# Altium footprint library C1Q-500.PcbLib: 1 footprints
Each footprint in its own frame and in the unit in brackets; x right, y up, seen from the top. Pads: shape width x height; smd on the part's side, far side on the other; paste and mask are expansions set on the pad; w line width, h text height; cw(c..) or ccw(c..) is an arc to the next point about the centre after c.
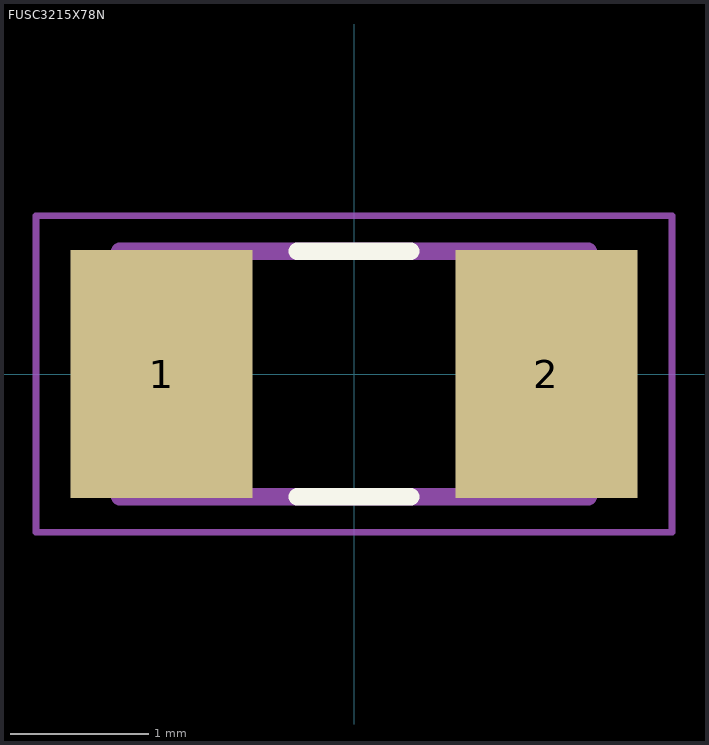
[diagram p0: the footprint, top view; thin cyan lines are the x and y axes]

## FUSC3215X78N [mm]
pads (2):
  rect 1.32x1.8 smd: 1(-1.395,0) 2(1.395,0)
Top Overlay:
  lines w0.127: -0.41,-0.89 0.41,-0.89 ; -0.41,0.89 0.41,0.89
Mechanical 13:
  lines w0.127: -1.7,-0.89 -1.7,0.89 1.7,0.89 1.7,-0.89 -1.7,-0.89
  text "'.Designator'" at 0.1,1.476 h0.7
Mechanical 15:
  lines w0.05: -2.308,-1.148 -2.308,1.148 2.308,1.148 2.308,-1.148 -2.308,-1.148
3D body "step_temp.STEP": height 0.78, standoff 0, extent -1.6,-0.79 1.6,0.79